# EAGLE library part ANTAP28 (library ANTAP28)
N548M4CB and ANTAP28 dynastream devices
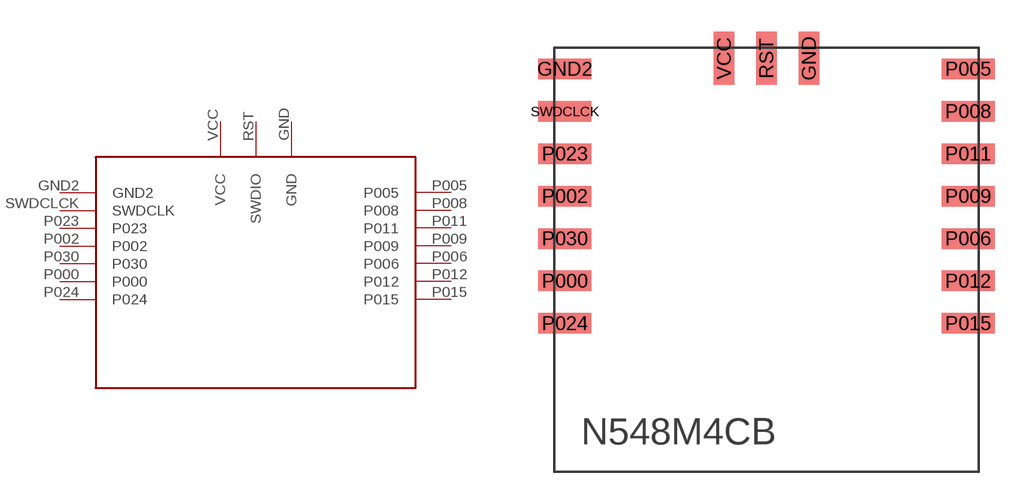
[diagram p0: symbol with the pads of ANTAP; footprint ANTAP]

Designator prefix -

## ANTAP28  [ANTAP]
GND  GND  pwr
GND2  GND2  pwr
P000  P000
P002  P002
P005  P005
P006  P006
P008  P008
P009  P009
P011  P011
P012  P012  in
P015  P015  out
P023  P023
P024  P024
P030  P030
RST  SWDIO
SWDCLCK  SWDCLK
VCC  VCC  pwr

## Footprint ANTAP (pad centres in mm)
smd 0.965 x 2.5: GND 12,19.5; RST 10,19.5; VCC 8,19.5
smd 2.5 x 0.965: GND2 0.5,19; P000 0.5,9; P002 0.5,13; P005 19.5,19; P006 19.5,11; P008 19.5,17; P009 19.5,13; P011 19.5,15; P012 19.5,9; P015 19.5,7; P023 0.5,15; P024 0.5,7; P030 0.5,11; SWDCLCK 0.5,17